# Altium footprint library Transistors.PcbLib: 20 footprints (part 2 of 2)
Each footprint in its own frame and in the unit in brackets; x right, y up, seen from the top. Pads: shape width x height; smd on the part's side, far side on the other; paste and mask are expansions set on the pad; w line width, h text height; cw(c..) or ccw(c..) is an arc to the next point about the centre after c.
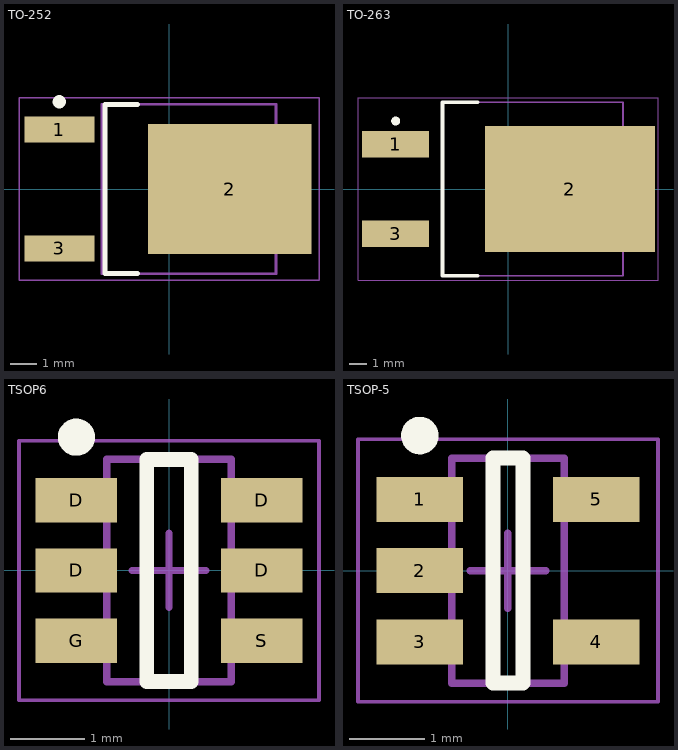
[diagram p1: the footprints below, top view; thin cyan lines are the x and y axes]

## TO-252 [mm] "D-PAK, 3-Pads, Body 6,40x6,56mm (max), IPC Medium Density"
height 2.4
pads (3):
  rect 2.65x1 smd: 1(-4.15,2.25) 3(-4.15,-2.25)
  rect 6.2x4.9 smd: 2(2.3,0)
Top Overlay:
  circle w0.25: c-4.15,3.3 r0.125
  lines w0.2: -1.2,-3.2 -2.425,-3.2 -2.425,3.2 -1.2,3.2
Mechanical 13:
  lines w0.1: -2.55,-3.2 4.05,-3.2 4.05,3.2 -2.55,3.2 -2.55,-3.2
Mechanical 15:
  lines w0.05: -5.675,-3.45 5.675,-3.45 5.675,3.45 -5.675,3.45 -5.675,-3.45
  lines w0.1: -0.5,0 0.5,0 ; 0,-0.5 0,0.5
3D body: height 2.4, standoff 0.9, extent -2.55,-3.2 4.05,3.2

## TO-263 [mm] "D2-PAK, 3-Pads, Body 8,20x8,26mm (max), IPC Medium Density"
height 4.8
pads (3):
  rect 3.8x1.5 smd: 1(-6.35,2.54) 3(-6.35,-2.54)
  rect 9.6x7.1 smd: 2(3.5,0)
Top Overlay:
  circle w0.25: c-6.35,3.84 r0.125
  lines w0.2: -1.7,-4.9 -3.7,-4.9 -3.7,4.9 -1.7,4.9
Mechanical 13:
  lines w0.1: -3.7,-4.9 6.5,-4.9 6.5,4.9 -3.7,4.9 -3.7,-4.9
Mechanical 15:
  lines w0.05: -8.475,-5.15 8.475,-5.15 8.475,5.15 -8.475,5.15 -8.475,-5.15
  lines w0.1: -0.5,0 0.5,0 ; 0,-0.5 0,0.5
3D body: height 4.8, standoff 0, extent -3.7,-4.9 6.5,4.9

## TSOP6 [mm]
pads (6):
  rect 1.1x0.6 smd: D(-1.25,0) D(-1.25,0.95) D(1.25,0) D(1.25,0.95) G(-1.25,-0.95) S(1.25,-0.95)
Top Overlay:
  circle w0.25: c-1.25,1.8 r0.125
  lines w0.2: -0.3,-1.5 0.3,-1.5 0.3,1.5 -0.3,1.5 -0.3,-1.5
Mechanical 13:
  lines w0.1: -0.84,-1.5 -0.84,1.5 0.84,1.5 0.84,-1.5 -0.84,-1.5
Mechanical 15:
  lines w0.05: -2.025,-1.75 -2.025,1.75 2.025,1.75 2.025,-1.75 -2.025,-1.75
  lines w0.1: -0.5,0 0.5,0 ; 0,-0.5 0,0.5
3D body "User Library-SOT23-6-2.step": height 1.45, standoff 0, extent -1.4,-1.45 1.4,1.45

## TSOP-5 [mm] "SOT23, 5-Leads, Body 3,00x2,75mm, Pitch 0,95mm, IPC Medium Density"
height 1.1
pads (5):
  rect 1.15x0.6 smd: 1(-1.175,0.95) 2(-1.175,0) 3(-1.175,-0.95) 4(1.175,-0.95) 5(1.175,0.95)
Top Overlay:
  circle w0.25: c-1.175,1.8 r0.125
  lines w0.2: -0.2,-1.5 -0.2,1.5 0.2,1.5 0.2,-1.5 -0.2,-1.5
Mechanical 13:
  lines w0.1: -0.75,-1.5 0.75,-1.5 0.75,1.5 -0.75,1.5 -0.75,-1.5
Mechanical 15:
  lines w0.05: -2,-1.75 2,-1.75 2,1.75 -2,1.75 -2,-1.75
  lines w0.1: -0.5,0 0.5,0 ; 0,-0.5 0,0.5
3D body: height 1.1, standoff 0.05, extent -0.75,-1.5 0.75,1.5